# Altium footprint library HgLib.PcbLib: 86 footprints (part 2 of 6)
Each footprint in its own frame and in the unit in brackets; x right, y up, seen from the top. Pads: shape width x height; smd on the part's side, far side on the other; paste and mask are expansions set on the pad; w line width, h text height; cw(c..) or ccw(c..) is an arc to the next point about the centre after c.
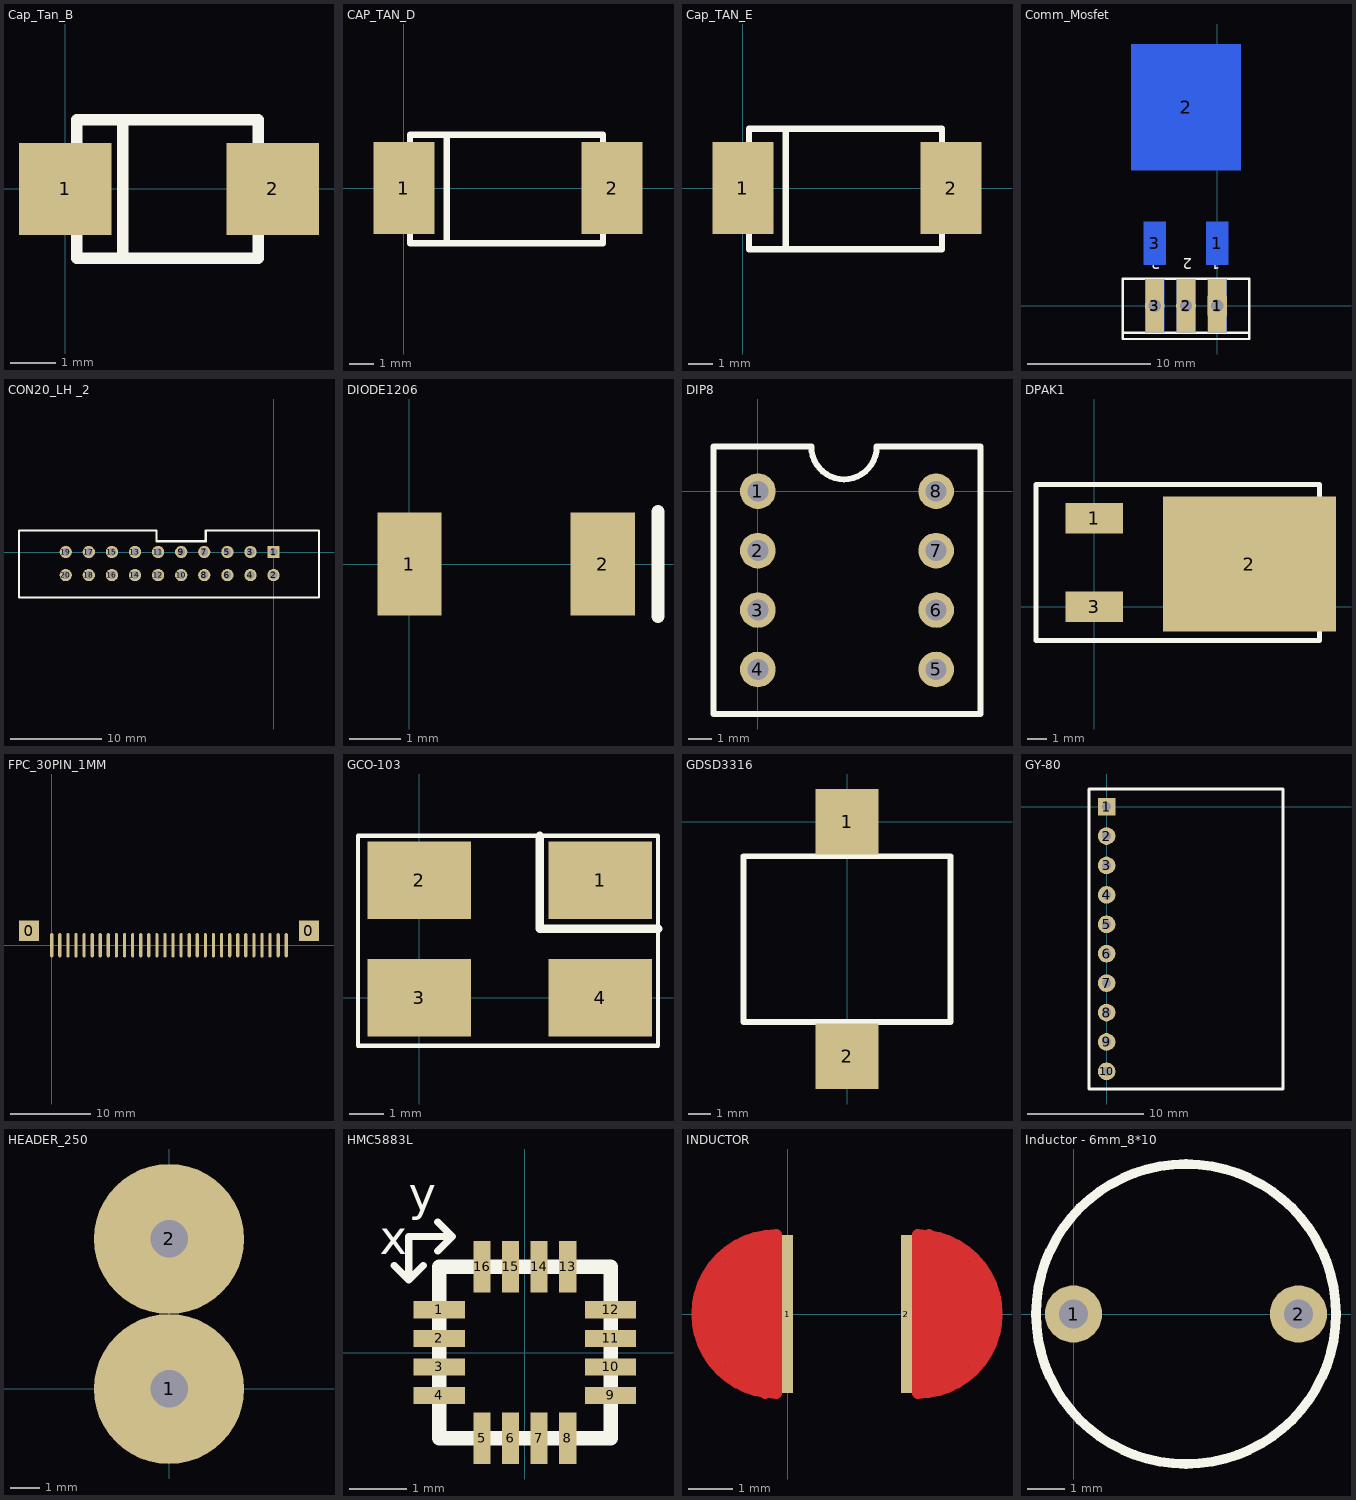
[diagram p1: the footprints below, top view; thin cyan lines are the x and y axes]

## Cap_Tan_B [mil]
pads (2):
  rect 80x80 smd: 1(0,0) 2(180,0)
Top Overlay:
  lines w10: 10,58.11 10,-60 167.48,-60 ; 10,60 167.48,60 167.48,-58.11 ; 50,-60 50,60

## CAP_TAN_D [mil]
pads (2):
  rect 100x150 smd: 1(0,0) 2(340,0)
Top Overlay:
  lines w10: 70,-90 70,87.17 ; 10,-90 324.96,-90 324.96,87.17 10,87.17 10,-90

## Cap_TAN_E [mil]
pads (2):
  rect 100x150 smd: 1(0,0) 2(340,0)
Top Overlay:
  lines w10: 70,-100 70,96.85 ; 10,-100 10,96.85 324.96,96.85 324.96,-100 10,-100

## Comm_Mosfet [mil]
pads (12):
  rect 60x170 smd: 1(0,0) 2(-100,0) 3(-200,0)
  rect 60x170 smd far side: 1(0,0) 2(-100,0) 3(-200,0)
  rect 62.99x62.99 hole 39.37: 1(0,0)
  rect 70x138 smd far side: 1(0,200) 3(-200,200)
  round 62.99 hole 39.37: 2(-100,0) 3(-200,0)
  rect 350x403 smd far side: 2(-100,635)
Top Overlay:
  lines w7.87: -302.76,-86.61 102.76,-86.61 ; -302.76,-106.3 102.76,-106.3 102.76,86.61 -302.76,86.61 -302.76,-106.3
  text "1" at 9.84,164.37 h59.06
  text "2" at -80.31,164.37 h59.06
  text "3" at -180.31,164.37 h59.06
Bottom Overlay:
  lines w10: -299,101 99,101 98,102 98,852 97,853 -299,853 -299,101

## CON20_LH _2 [mm]
pads (20):
  rect 1.35x1.35 / inner round 0 / far side round 0 hole 0.85: 1(0,0)
  round 1.35 / inner round 0 / far side round 0 hole 0.85: 2(0,-2.54) 3(-2.54,0) 4(-2.54,-2.54) 5(-5.08,0) 6(-5.08,-2.54) 7(-7.62,0) 8(-7.62,-2.54) 9(-10.16,0) 10(-10.16,-2.54) 11(-12.7,0) 12(-12.7,-2.54) 13(-15.24,0) 14(-15.24,-2.54) 15(-17.78,0) 16(-17.78,-2.54) 17(-20.32,0) 18(-20.32,-2.54) 19(-22.86,0) 20(-22.86,-2.54)
Top Overlay:
  lines w0.254: -28,2.302 -28,-5 5,-5 5,2.282 ; -28,2.362 -12.878,2.362 -12.878,1.194 -7.442,1.194 -7.442,2.362 5,2.362

## DIODE1206 [mm]
pads (2):
  rect 1.25x2 smd: 1(0,0) 2(3.75,0)
Top Overlay:
  lines w0.254: 4.826,-1.016 4.826,1.016

## DIP8 [mil]
pads (8):
  round 60 hole 35: 1(0,0) 2(0,-100) 3(0,-200) 4(0,-300) 5(300,-300) 6(300,-200) 7(300,-100) 8(300,0)
Top Overlay:
  lines w10: -75,-375 -75,-350 -75,25 -75,75 90,75 ccw(c145,75) 200,75 375,75 375,-375 -75,-375

## DPAK1 [mm]
pads (3):
  rect 3x1.6 smd mask+0.102: 1(0,4.6) 3(0,0)
  rect 9x7 smd mask+0.102: 2(8.064,2.224)
Top Overlay:
  lines w0.254: -3.035,-1.764 11.697,-1.764 11.697,6.364 -3.035,6.364 -3.035,-1.764

## FPC_30PIN_1MM [mm]
pads (32):
  rect 2.5x2.5 smd: 0(-2.8,1.8) 0(31.8,1.8)
  oval 0.4x3 smd: 1(0,0) 2(1,0) 3(2,0) 4(3,0) 5(4,0) 6(5,0) 7(6,0) 8(7,0) 9(8,0) 10(9,0) 11(10,0) 12(11,0) 13(12,0) 14(13,0) 15(14,0) 16(15,0) 17(16,0) 18(17,0) 19(18,0) 20(19,0) 21(20,0) 22(21,0) 23(22,0) 24(23,0) 25(24,0) 26(25,0) 27(26,0) 28(27,0) 29(28,0) 30(29,0)

## GCO-103 [mil]
pads (4):
  rect 120x90 smd mask+4: 1(210,136) 2(0,136) 3(0,0) 4(210,0)
Top Overlay:
  lines w5: -71,188 -71,-56 277,-56 277.15,-55.84 277.15,-35 ; -70.78,187.78 -58,187.78 ; -60.91,187.78 -49.84,187.78 277.15,187.78 277.15,-17.22 ; 277.15,-38.84 277.15,-9
  lines w10: 140,187.78 140,80 277.15,80

## GDSD3316 [mm]
pads (2):
  rect 2.8x2.92 smd: 1(0,0)
  rect 2.79x2.92 smd: 2(0,-10.414)
Top Overlay:
  lines w0.254: -4.6,-8.894 -4.6,-1.524 4.6,-1.524 4.6,-8.894 -4.6,-8.894

## GY-80 [mil]
pads (10):
  rect 60x60 / inner round 0 / far side round 0 hole 30: 1(0,0)
  round 60 / inner round 0 / far side round 0 hole 30: 2(0,-100) 3(0,-200) 4(0,-300) 5(0,-400) 6(0,-500) 7(0,-600) 8(0,-700) 9(0,-800) 10(0,-900)
Top Overlay:
  lines w10: -60,-960 -60,60 600,60 600,-960 -60,-960

## HEADER_250 [mm]
pads (2):
  round 5.08 hole 1.27: 1(0,0) 2(0,5.08)

## HMC5883L [mm]
pads (16):
  rect 0.9x0.3 smd: 1(-1.5,0.75) 2(-1.5,0.25) 3(-1.5,-0.25) 4(-1.5,-0.75) 9(1.5,-0.75) 10(1.5,-0.25) 11(1.5,0.25) 12(1.5,0.75)
  rect 0.3x0.9 smd: 5(-0.75,-1.5) 6(-0.25,-1.5) 7(0.25,-1.5) 8(0.75,-1.5) 13(0.75,1.5) 14(0.25,1.5) 15(-0.25,1.5) 16(-0.75,1.5)
Top Overlay:
  lines w0.127: -2.286,1.524 -2.032,1.27 ; -1.778,1.524 -2.032,1.27 ; -1.524,1.778 -1.27,2.032 ; -1.524,2.286 -1.27,2.032 ; -2.032,1.27 -2.032,2.032 -1.27,2.032
  lines w0.254: -1.5,-1.5 -1.5,1.5 1.5,1.5 1.5,-1.5 -1.5,-1.5
  text "y" at -2.032,2.286 h1.02
  text "x" at -2.54,1.524 h1.02

## INDUCTOR [mil] "pad"
pads (2):
  rect 10x140 smd mask+4: 1(0,0) 2(105,0)
Top Layer:
  lines w10: -70,-35 -70,35 ; -60,-45 -60,45 ; -50,-55 -50,55 ; -40,-60 -40,60 ; -30,-65 -30,65 ; -20,-70 -20,65 ; 125,-65 125,70 ; 135,-65 135,65 ; 145,-60 145,60 ; 155,-55 155,55 ; 165,-45 165,45 ; 175,-35 175,35 ; -10,-70 cw(c-10,0) -10,70 -10,-70 ; 115,-70 ccw(c115,0) 115,70 115,-70
Top Solder:
  lines w10: -70,-35 -70,35 ; -60,-45 -60,45 ; -50,-55 -50,55 ; -40,-60 -40,60 ; -30,-65 -30,65 ; -20,-70 -20,65 ; 125,-65 125,70 ; 135,-65 135,65 ; 145,-60 145,60 ; 155,-55 155,55 ; 165,-45 165,45 ; 175,-35 175,35 ; -10,-70 cw(c-10,0) -10,70 -10,-70 ; 115,-70 ccw(c115,0) 115,70 115,-70

## Inductor - 6mm_8*10 [mil]
pads (2):
  round 60 hole 30: 1(0,0) 2(236.22,0)
Top Overlay:
  circle w10: c118.11,0 r157.48